# Altium schematic symbol library MCP23017-QFN.Schlib: 1 symbol
Pins are listed as number, name and electrical type; pins without a type are passive.

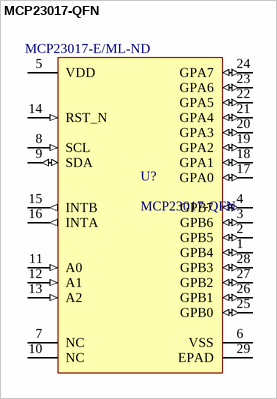
[diagram p0: symbol MCP23017-QFN]

## MCP23017-QFN
designator U?  Supplier Part Number 1: MCP23017-E/ML-ND
16 channel I2C port expander; Supplier 1: Digi-Key
footprint QFN65P600X600X100-29 (QFN + Pitch P + Body With X Body Length X Height - #Pins)
pins: 1 GPB4 (io), 2 GPB5 (io), 3 GPB6 (io), 4 GPB7 (io), 5 VDD (power), 6 VSS (power), 7 NC, 8 SCL (in), 9 SDA (io), 10 NC, 11 A0 (in), 12 A1 (in), 13 A2 (in), 14 RST_N (in), 15 INTB (out), 16 INTA (out), 17 GPA0 (io), 18 GPA1 (io), 19 GPA2 (io), 20 GPA3 (io), 21 GPA4 (io), 22 GPA5 (io), 23 GPA6 (io), 24 GPA7 (io), 25 GPB0 (io), 26 GPB1 (io), 27 GPB2 (io), 28 GPB3 (io), 29 EPAD (power)